# EAGLE library part ATSAMR21G18-MR210UA (library Atmel)
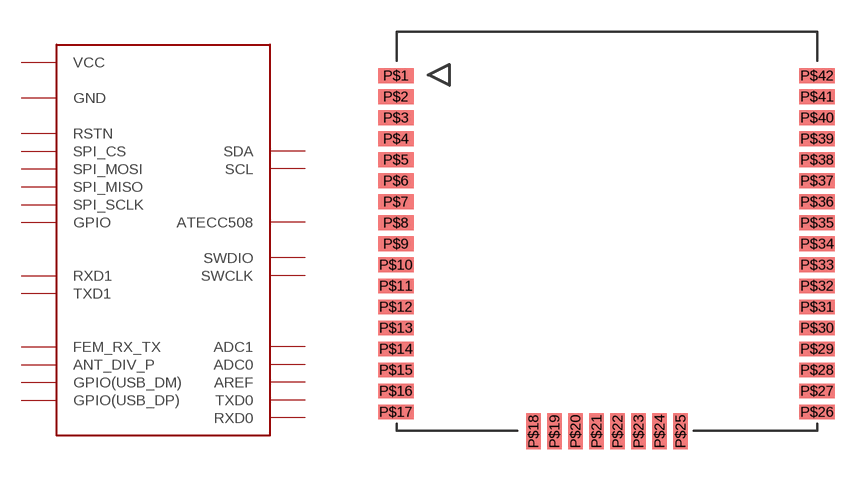
[diagram p346: symbol with the pads of ATSAMR21G18-MR210UA; footprint ATSAMR21G18-MR210UA]

Designator prefix -

## ATSAMR21G18-MR210UA (MF: Microchip Technology / Atmel; MPN: ATSAMR21G18-MR210UA)  [ATSAMR21G18-MR210UA]
P$1  GND
P$2  GND
P$3  VCC
P$4  VCC
P$5  RSTN
P$6  SPI_CS
P$7  SPI_MOSI
P$8  SPI_MISO
P$9  SPI_SCLK
P$10  GPIO
P$12  GND
P$13  RXD1
P$14  TXD1
P$17  FEM_RX_TX
P$18  ANT_DIV_P
P$19  GPIO(USB_DM)
P$20  GPIO(USB_DP)
P$22  RXD0
P$23  TXD0
P$24  AREF
P$25  ADC0
P$26  ADC1
P$29  GND
P$30  SWCLK
P$31  SWDIO
P$33  ATECC508
P$36  SCL
P$37  SDA
P$41  GND
P$42  GND

## Footprint ATSAMR21G18-MR210UA (pad centres in mm)
smd 1.7 x 0.7: P$1 -10.856,8.44; P$2 -10.856,7.44; P$3 -10.856,6.44; P$4 -10.856,5.44; P$5 -10.856,4.44; P$6 -10.856,3.44; P$7 -10.856,2.44; P$8 -10.856,1.44; P$9 -10.856,0.44; P$10 -10.856,-0.56; P$11 -10.856,-1.56; P$12 -10.856,-2.56; P$13 -10.856,-3.56; P$14 -10.856,-4.56; P$15 -10.856,-5.56; P$16 -10.856,-6.56; P$17 -10.856,-7.56; P$26 9.182,-7.56; P$27 9.182,-6.56; P$28 9.182,-5.56; P$29 9.182,-4.56; P$30 9.182,-3.56; P$31 9.182,-2.56; P$32 9.182,-1.56; P$33 9.182,-0.56; P$34 9.182,0.44; P$35 9.182,1.44; P$36 9.182,2.44; P$37 9.182,3.44; P$38 9.182,4.44; P$39 9.182,5.44; P$40 9.182,6.44; P$41 9.182,7.44; P$42 9.182,8.44
smd 0.7 x 1.7: P$18 -4.31,-8.479; P$19 -3.31,-8.479; P$20 -2.31,-8.479; P$21 -1.31,-8.479; P$22 -0.31,-8.479; P$23 0.69,-8.479; P$24 1.69,-8.479; P$25 2.69,-8.479